# EAGLE library part CONNEC_2X04 (library rhoban)
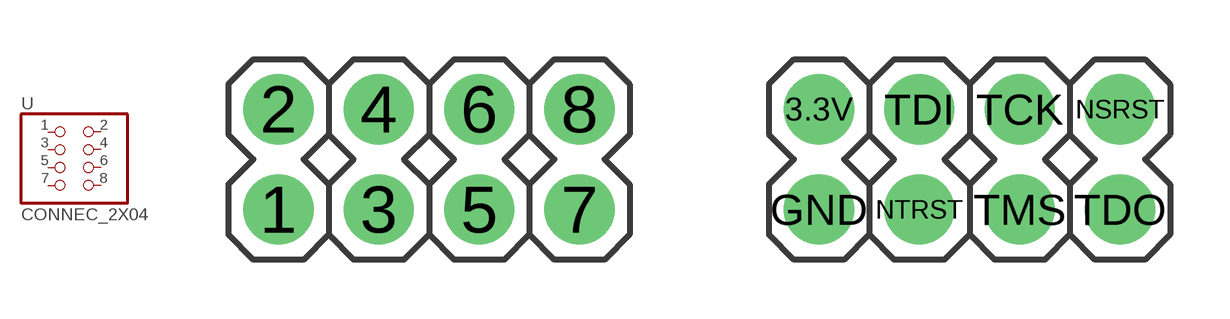
[diagram p12: symbol with the pads of CONNEC_2X04; footprints CONNEC_2X04, CONNEC_JTAG_MINIMAL]

Designator prefix -

## CONNEC_2X04  [CONNEC_2X04]
1  1  pas
2  2  pas
3  3  pas
4  4  pas
5  5  pas
6  6  pas
7  7  pas
8  8  pas

## CONNEC_2X04_JTAG  [CONNEC_JTAG_MINIMAL]
3.3V  1  pas
GND  2  pas
NSRST  8  pas
NTRST  3  pas
TCK  6  pas
TDI  4  pas
TDO  7  pas
TMS  5  pas

## Footprint CONNEC_2X04 (pad centres in mm)
drill 1 pad 1.778: 1 -1.27,1.27; 2 -1.27,3.81; 3 1.27,1.27; 4 1.27,3.81; 5 3.81,1.27; 6 3.81,3.81; 7 6.35,1.27; 8 6.35,3.81

## Footprint CONNEC_JTAG_MINIMAL (pad centres in mm)
drill 1 pad 1.778: 3.3V -3.81,1.27; GND -3.81,-1.27; NSRST 3.81,1.27; NTRST -1.27,-1.27; TCK 1.27,1.27; TDI -1.27,1.27; TDO 3.81,-1.27; TMS 1.27,-1.27